# EAGLE library part CRUMBX128A1 (library chip45_EagleLib_090813)
CrumbX128A1 V1.0 CrumbX128A1 V1.0 is a versatile, very small (just 60x30mm footprint!) microcontroller module with the ATxmega128A1 microcontroller, CP2102 USB UART converter, RS485 transceiver, sd-card slot, voltage regulator. All ATxmega128A1 signals are available on pads. A selectable XTAL crystal or watch crystal is included.
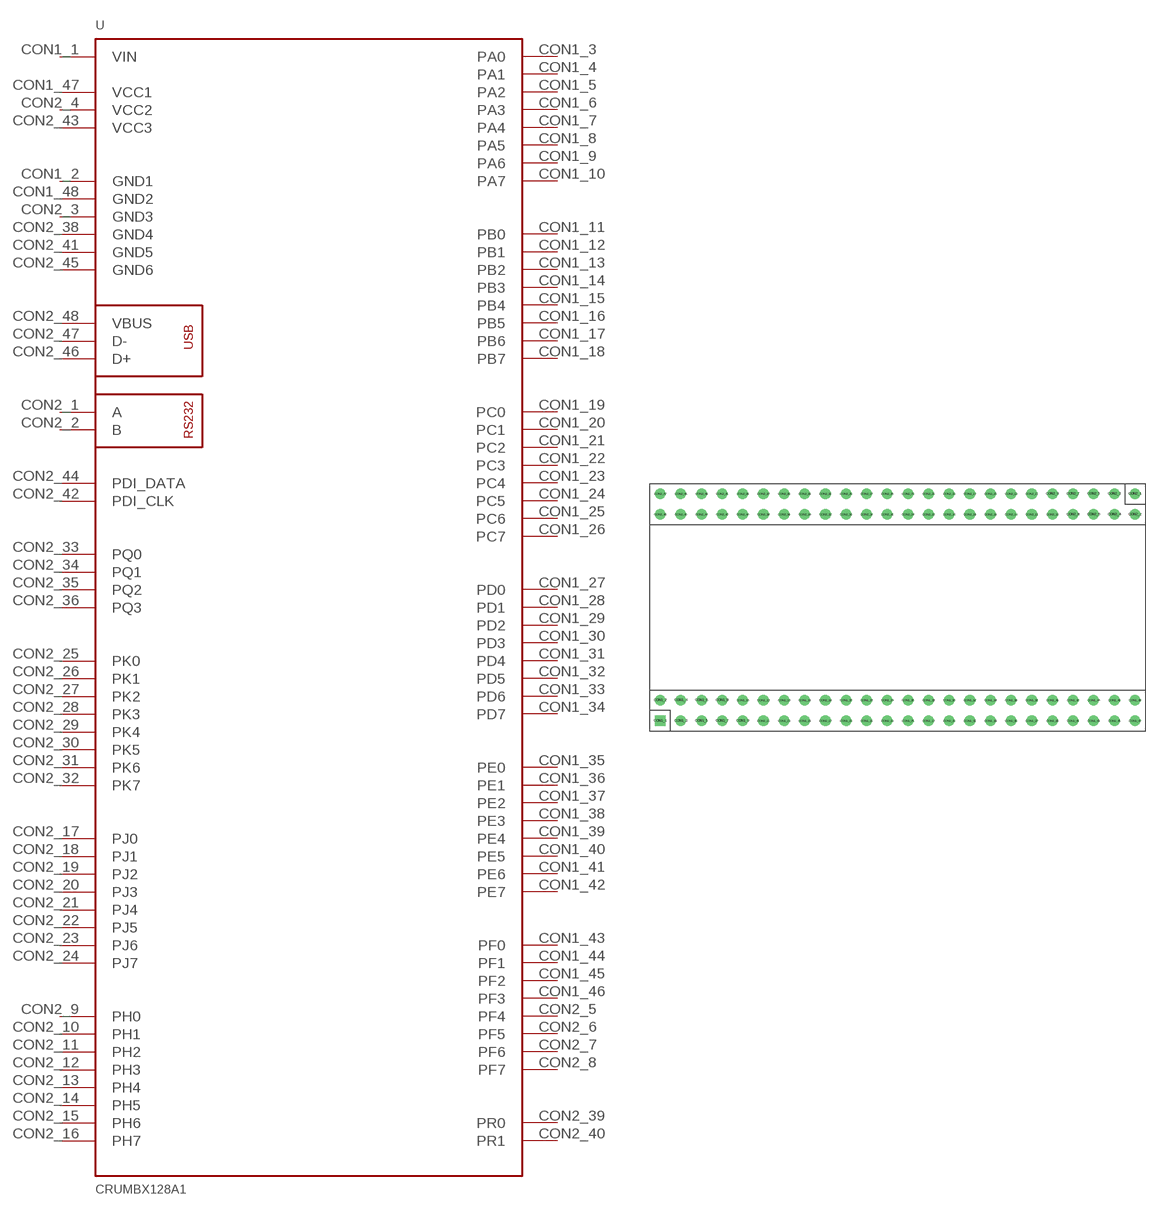
[diagram p14: symbol with the pads of CRUMBX128A1; footprint CRUMBX128A1]

Designator prefix -

## CRUMBX128A1 (EEPROM: 2 kB; FLASH: 128 kB; PERIPHERALS: CP2102 USB-UART converter, mini USB B 5pin connector, MAX3362 3.3V RS485 transceiver, status LED and tiny reset button; PROCESSOR: ATxmega128A1; RAM: 8 kB SRAM)  [CRUMBX128A1]
CON1_1  VIN  pwr
CON1_2  GND1  pwr
CON1_3  PA0
CON1_4  PA1
CON1_5  PA2
CON1_6  PA3
CON1_7  PA4
CON1_8  PA5
CON1_9  PA6
CON1_10  PA7
CON1_11  PB0
CON1_12  PB1
CON1_13  PB2
CON1_14  PB3
CON1_15  PB4
CON1_16  PB5
CON1_17  PB6
CON1_18  PB7
CON1_19  PC0
CON1_20  PC1
CON1_21  PC2
CON1_22  PC3
CON1_23  PC4
CON1_24  PC5
CON1_25  PC6
CON1_26  PC7
CON1_27  PD0
CON1_28  PD1
CON1_29  PD2
CON1_30  PD3
CON1_31  PD4
CON1_32  PD5
CON1_33  PD6
CON1_34  PD7
CON1_35  PE0
CON1_36  PE1
CON1_37  PE2
CON1_38  PE3
CON1_39  PE4
CON1_40  PE5
CON1_41  PE6
CON1_42  PE7
CON1_43  PF0
CON1_44  PF1
CON1_45  PF2
CON1_46  PF3
CON1_47  VCC1  in
CON1_48  GND2  pwr
CON2_1  A
CON2_2  B
CON2_3  GND3  pwr
CON2_4  VCC2
CON2_5  PF4
CON2_6  PF5
CON2_7  PF6
CON2_8  PF7
CON2_9  PH0
CON2_10  PH1
CON2_11  PH2
CON2_12  PH3
CON2_13  PH4
CON2_14  PH5
CON2_15  PH6
CON2_16  PH7
CON2_17  PJ0
CON2_18  PJ1
CON2_19  PJ2
CON2_20  PJ3
CON2_21  PJ4
CON2_22  PJ5
CON2_23  PJ6
CON2_24  PJ7
CON2_25  PK0
CON2_26  PK1
CON2_27  PK2
CON2_28  PK3
CON2_29  PK4
CON2_30  PK5
CON2_31  PK6
CON2_32  PK7
CON2_33  PQ0
CON2_34  PQ1
CON2_35  PQ2
CON2_36  PQ3
CON2_38  GND4
CON2_39  PR0
CON2_40  PR1
CON2_41  GND5
CON2_42  PDI_CLK
CON2_43  VCC3  out
CON2_44  PDI_DATA
CON2_45  GND6  out
CON2_46  D+
CON2_47  D-
CON2_48  VBUS

## Footprint CRUMBX128A1 (pad centres in mm)
CrumbX128A1 V1.0 CrumbX128A1 V1.0 is a versatile, very small (just 60x30mm footprint!) microcontroller module with the ATxmega128A1 microcontroller, CP2102 USB UART converter, RS485 transceiver, sd-card slot, voltage regulator. All ATxmega128A1 signals are available on pads. A selectable XTAL crystal or watch crystal is included.
drill 0.8 square: CON1_1 -29.21,-13.97
drill 0.8 round: CON1_2 -29.21,-11.43; CON1_3 -26.67,-13.97; CON1_4 -26.67,-11.43; CON1_5 -24.13,-13.97; CON1_6 -24.13,-11.43; CON1_7 -21.59,-13.97; CON1_8 -21.59,-11.43; CON1_9 -19.05,-13.97; CON1_10 -19.05,-11.43; CON1_11 -16.51,-13.97; CON1_12 -16.51,-11.43; CON1_13 -13.97,-13.97; CON1_14 -13.97,-11.43; CON1_15 -11.43,-13.97; CON1_16 -11.43,-11.43; CON1_17 -8.89,-13.97; CON1_18 -8.89,-11.43; CON1_19 -6.35,-13.97; CON1_20 -6.35,-11.43; CON1_21 -3.81,-13.97; CON1_22 -3.81,-11.43; CON1_23 -1.27,-13.97; CON1_24 -1.27,-11.43; CON1_25 1.27,-13.97; CON1_26 1.27,-11.43; CON1_27 3.81,-13.97; CON1_28 3.81,-11.43; CON1_29 6.35,-13.97; CON1_30 6.35,-11.43; CON1_31 8.89,-13.97; CON1_32 8.89,-11.43; CON1_33 11.43,-13.97; CON1_34 11.43,-11.43; CON1_35 13.97,-13.97; CON1_36 13.97,-11.43; CON1_37 16.51,-13.97; CON1_38 16.51,-11.43; CON1_39 19.05,-13.97; CON1_40 19.05,-11.43; CON1_41 21.59,-13.97; CON1_42 21.59,-11.43; CON1_43 24.13,-13.97; CON1_44 24.13,-11.43; CON1_45 26.67,-13.97; CON1_46 26.67,-11.43; CON1_47 29.21,-13.97; CON1_48 29.21,-11.43; CON2_1 29.21,13.97; CON2_2 29.21,11.43; CON2_3 26.67,13.97; CON2_4 26.67,11.43; CON2_5 24.13,13.97; CON2_6 24.13,11.43; CON2_7 21.59,13.97; CON2_8 21.59,11.43; CON2_9 19.05,13.97; CON2_10 19.05,11.43; CON2_11 16.51,13.97; CON2_12 16.51,11.43; CON2_13 13.97,13.97; CON2_14 13.97,11.43; CON2_15 11.43,13.97; CON2_16 11.43,11.43; CON2_17 8.89,13.97; CON2_18 8.89,11.43; CON2_19 6.35,13.97; CON2_20 6.35,11.43; CON2_21 3.81,13.97; CON2_22 3.81,11.43; CON2_23 1.27,13.97; CON2_24 1.27,11.43; CON2_25 -1.27,13.97; CON2_26 -1.27,11.43; CON2_27 -3.81,13.97; CON2_28 -3.81,11.43; CON2_29 -6.35,13.97; CON2_30 -6.35,11.43; CON2_31 -8.89,13.97; CON2_32 -8.89,11.43; CON2_33 -11.43,13.97; CON2_34 -11.43,11.43; CON2_35 -13.97,13.97; CON2_36 -13.97,11.43; CON2_37 -16.51,13.97; CON2_38 -16.51,11.43; CON2_39 -19.05,13.97; CON2_40 -19.05,11.43; CON2_41 -21.59,13.97; CON2_42 -21.59,11.43; CON2_43 -24.13,13.97; CON2_44 -24.13,11.43; CON2_45 -26.67,13.97; CON2_46 -26.67,11.43; CON2_47 -29.21,13.97; CON2_48 -29.21,11.43